# Altium footprint library cabinet_LIB.PcbLib: 5 footprints
Each footprint in its own frame and in the unit in brackets; x right, y up, seen from the top. Pads: shape width x height; smd on the part's side, far side on the other; paste and mask are expansions set on the pad; w line width, h text height; cw(c..) or ccw(c..) is an arc to the next point about the centre after c.
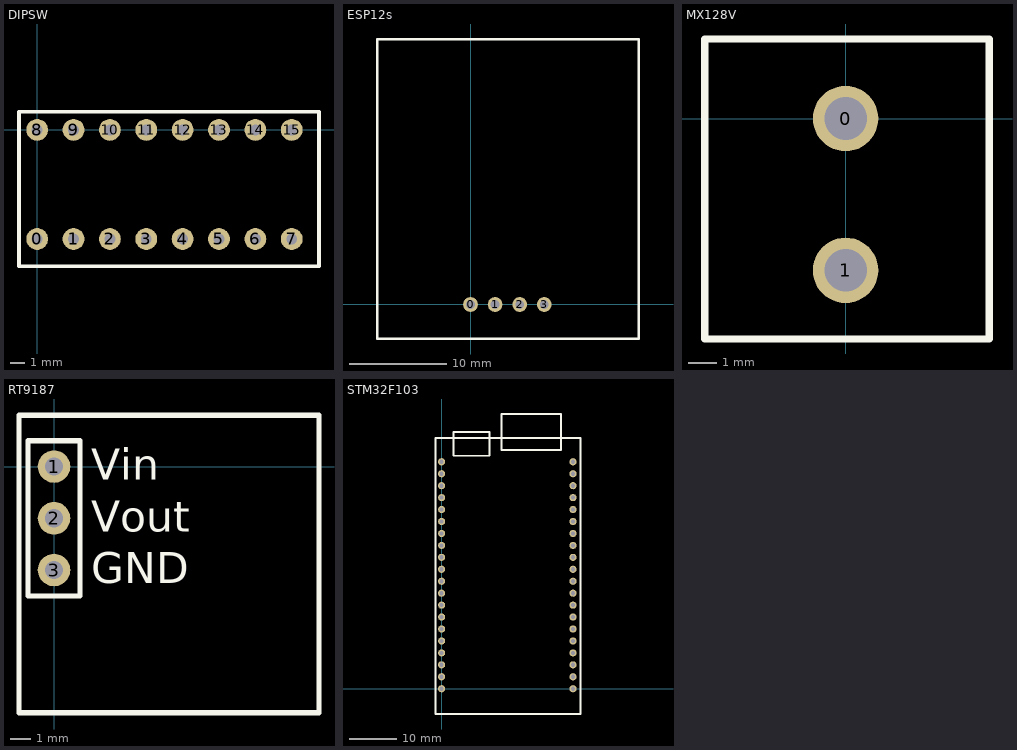
[diagram p0: the footprints below, top view; thin cyan lines are the x and y axes]

## DIPSW [mil]
pads (16):
  round 60 hole 30: 0(0,-300) 1(100,-300) 2(200,-300) 3(300,-300) 4(400,-300) 5(500,-300) 6(600,-300) 7(700,-300) 8(0,0) 9(100,0) 10(200,0) 11(300,0) 12(400,0) 13(500,0) 14(600,0) 15(700,0)
Top Overlay:
  lines w10: -50,-375 775,-375 775,50 -50,50 -50,-375

## ESP12s [mil]
pads (4):
  round 60 hole 35.43: 0(0,0) 1(100,0) 2(200,0) 3(300,0)
Top Overlay:
  lines w10: -380,-140.47 -380,1080 682.99,1080 ; -377.99,-140 685,-140 685,1080.47

## MX128V [mm]
pads (2):
  round 2.3 hole 1.5: 0(0,0) 1(0,-5.334)
Top Overlay:
  lines w0.254: -4.953,-7.747 5.05,-7.747 5.05,2.794 -4.953,2.794 -4.953,-7.747

## RT9187 [mm]
pads (3):
  round 1.6 hole 0.9: 1(0,0) 2(0,-2.54) 3(0,-5.08)
Top Overlay:
  lines w0.254: -1.72,-12.087 13.012,-12.087 13.012,2.518 -1.72,2.518 -1.72,-12.087 ; -1.27,-6.35 1.27,-6.35 1.27,1.27 -1.27,1.27 -1.27,-6.35
  text "GND" at 1.836,-5.737 h1.52
  text "Vout" at 1.836,-3.197 h1.52
  text "Vin" at 1.836,-0.657 h1.52

## STM32F103 [mil]
pads (40):
  round 60 hole 35.43: 0(1098.82,1900.5) 1(1098.82,1800.5) 2(1098.82,1700.5) 3(1098.82,1600.5) 4(1098.82,1500.5) 5(1098.82,1400.5) 6(1098.82,1300.5) 7(1098.82,1200.5) 8(1098.82,1100.5) 9(1098.82,1000.5) 10(1098.82,900.5) 11(1098.82,800.5) 12(1098.82,700.5) 13(1098.82,600.5) 14(1098.82,500.5) 15(1098.82,400.5) 16(1098.82,300.5) 17(1098.82,200.5) 18(1098.82,100.5) 19(1098.82,0.5) 20(-1.18,1900.5) 21(-1.18,1800.5) 22(-1.18,1700.5) 23(-1.18,1600.5) 24(-1.18,1500.5) 25(-1.18,1400.5) 26(-1.18,1300.5) 27(-1.18,1200.5) 28(-1.18,1100.5) 29(-1.18,1000.5) 30(-1.18,900.5) 31(-1.18,800.5) 32(-1.18,700.5) 33(-1.18,600.5) 34(-1.18,500.5) 35(-1.18,400.5) 36(-1.18,300.5) 37(-1.18,200.5) 38(-1.18,100.5) 39(-1.18,0.5)
Top Overlay:
  lines w15.75: -51.18,-210.91 1160.23,-210.91 1160.23,2100.5 -51.18,2100.5 -51.18,-210.91 ; 98.82,1950.5 98.82,2150.5 398.82,2150.5 398.82,1950.5 98.82,1950.5 ; 498.82,2000.5 498.82,2300.5 998.82,2300.5 998.82,2000.5 498.82,2000.5